# EAGLE library part LM5010 (library LM5010)
LM5010 High-Voltage 1-A Step-Down Switching Regulator https://www.ti.com/lit/ds/symlink/lm5010.pdf?ts=1653069920582
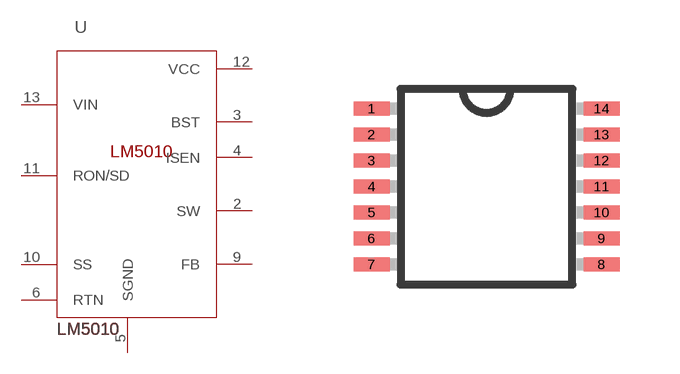
[diagram p0: symbol with the pads of TSSOP-14; footprint TSSOP-14]

Designator prefix -

## LM5010  [TSSOP-14]
2  SW
3  BST
4  ISEN
5  SGND
6  RTN
9  FB
10  SS
11  RON/SD
12  VCC
13  VIN

## Footprint TSSOP-14 (pad centres in mm)
14-Lead Thin Shrink Small Outline Package [TSSOP] Source: Analog Devices .. 780914713ADD8704_0.pdf
smd 0.9 x 0.35: 1 -2.875,1.95; 2 -2.875,1.3; 3 -2.875,0.65; 4 -2.875,0; 5 -2.875,-0.65; 6 -2.875,-1.3; 7 -2.875,-1.95; 8 2.875,-1.95; 9 2.875,-1.3; 10 2.875,-0.65; 11 2.875,0; 12 2.875,0.65; 13 2.875,1.3; 14 2.875,1.95